# Altium schematic symbol library Schlib1.SchLib: 1 symbol
Pins are listed as number, name and electrical type; pins without a type are passive.

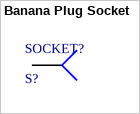
[diagram p0: symbol Banana Plug Socket]

## Banana Plug Socket
designator SOCKET?, comment S?
Banana Socket
footprint SOCKET-ROUND
footprint SOCKET-SQUARE
pins: 1